# Altium footprint library LORA127X-C1.PcbLib: 1 footprints
Each footprint in its own frame and in the unit in brackets; x right, y up, seen from the top. Pads: shape width x height; smd on the part's side, far side on the other; paste and mask are expansions set on the pad; w line width, h text height; cw(c..) or ccw(c..) is an arc to the next point about the centre after c.
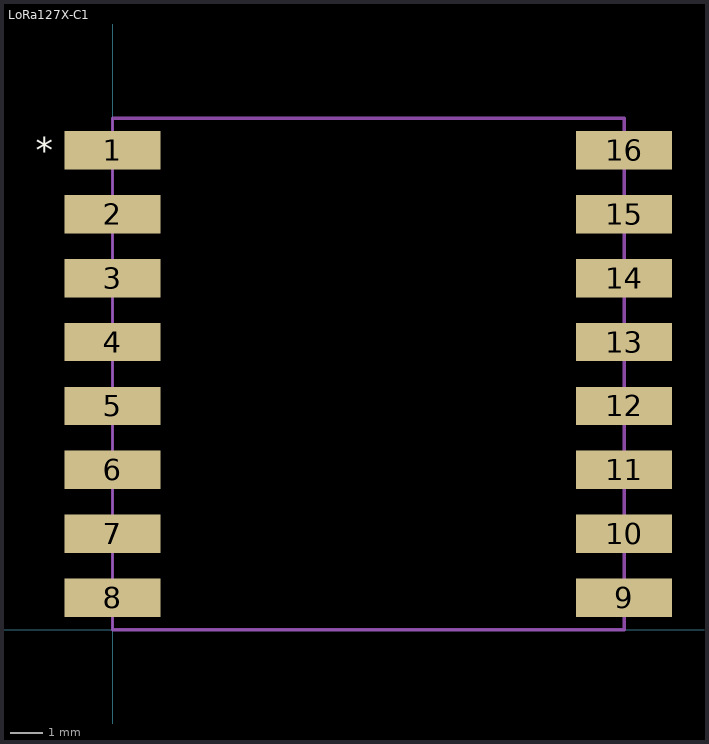
[diagram p0: the footprint, top view; thin cyan lines are the x and y axes]

## LoRa127X-C1 [mm]
pads (16):
  rect 3x1.2 smd paste-10 mask+0: 1(0,15) 2(0,13) 3(0,11) 4(0,9) 5(0,7) 6(0,5) 7(0,3) 8(0,1) 9(16,1) 10(16,3) 11(16,5) 12(16,7) 13(16,9) 14(16,11) 15(16,13) 16(16,15)
Top Overlay:
  text "*" at -2.4,14.6 h0.8
Top Paste:
  rectangle: 15.6,0.4 17.5,1.6
  rectangle: 15.6,2.4 17.5,3.6
  rectangle: 15.6,4.4 17.5,5.6
  rectangle: 15.6,6.4 17.5,7.6
  rectangle: 15.6,8.4 17.5,9.6
  rectangle: 15.6,10.4 17.5,11.6
  rectangle: 15.6,12.4 17.5,13.6
  rectangle: 15.6,14.4 17.5,15.6
  rectangle: -1.5,14.4 0.4,15.6
  rectangle: -1.5,12.4 0.4,13.6
  rectangle: -1.5,10.4 0.4,11.6
  rectangle: -1.5,8.4 0.4,9.6
  rectangle: -1.5,6.4 0.4,7.6
  rectangle: -1.5,4.4 0.4,5.6
  rectangle: -1.5,2.4 0.4,3.6
  rectangle: -1.5,0.4 0.4,1.6
Top Solder:
  rectangle: 15.6,12.4 17.5,13.6
  rectangle: 15.6,14.4 17.5,15.6
  rectangle: 15.6,8.4 17.5,9.6
  rectangle: 15.6,10.4 17.5,11.6
  rectangle: 15.6,4.4 17.5,5.6
  rectangle: 15.6,6.4 17.5,7.6
  rectangle: 15.6,0.4 17.5,1.6
  rectangle: 15.6,2.4 17.5,3.6
  rectangle: -1.5,0.4 0.4,1.6
  rectangle: -1.5,2.4 0.4,3.6
  rectangle: -1.5,4.4 0.4,5.6
  rectangle: -1.5,6.4 0.4,7.6
  rectangle: -1.5,8.4 0.4,9.6
  rectangle: -1.5,10.4 0.4,11.6
  rectangle: -1.5,14.4 0.4,15.6
  rectangle: -1.5,12.4 0.4,13.6
Mechanical 1:
  circle w0.1: c15,15 r0.35
  circle w0.1: c15,13 r0.35
  circle w0.1: c15,11 r0.35
  circle w0.1: c15,9 r0.35
  circle w0.1: c15,7 r0.35
  circle w0.1: c15,5 r0.35
  circle w0.1: c15,3 r0.35
  circle w0.1: c15,1 r0.35
  circle w0.1: c1,1 r0.35
  circle w0.1: c1,3 r0.35
  circle w0.1: c1,5 r0.35
  circle w0.1: c1,7 r0.35
  circle w0.1: c1,9 r0.35
  circle w0.1: c1,11 r0.35
  circle w0.1: c1,13 r0.35
  circle w0.1: c1,15 r0.35
  lines w0.1: 0,0 0,0.65 ccw(c0,1) 0,1.35 0,2.65 ccw(c0,3) 0,3.35 0,4.65 ccw(c0,5) 0,5.35 0,6.65 ccw(c0,7) 0,7.35 0,8.65 ccw(c0,9) 0,9.35 0,10.65 ccw(c0,11) 0,11.35 0,12.65 ccw(c0,13) 0,13.35 0,14.65 ccw(c0,15) 0,15.35 0,16 16,16 16,15.35 ccw(c16,15) 16,14.65 16,13.35 ccw(c16,13) 16,12.65 16,11.35 ccw(c16,11) 16,10.65 16,9.35 ccw(c16,9) 16,8.65 16,7.35 ccw(c16,7) 16,6.65 16,5.35 ccw(c16,5) 16,4.65 16,3.35 ccw(c16,3) 16,2.65 16,1.35 ccw(c16,1) 16,0.65 16,0 0,0
3D body "Part Studio 1.step": height 2.1, standoff 0, extent 0,0 16,16